# EAGLE library part BLDC_STACK_HEADER_PWR (library jack_libs)
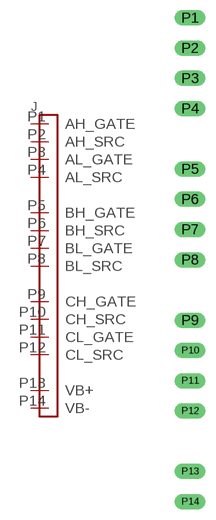
[diagram p9: symbol with the pads of BLDC_STACK_HEADER_PWR; footprint BLDC_STACK_HEADER_PWR]

Designator prefix J

## BLDC_STACK_HEADER_PWR  [BLDC_STACK_HEADER_PWR]
P1  AH_GATE
P2  AH_SRC
P3  AL_GATE
P4  AL_SRC
P5  BH_GATE
P6  BH_SRC
P7  BL_GATE
P8  BL_SRC
P9  CH_GATE
P10  CH_SRC
P11  CL_GATE
P12  CL_SRC
P13  VB+
P14  VB-

## Footprint BLDC_STACK_HEADER_PWR (pad centres in mm)
drill 0.8 long: P1 0,20.32; P2 0,17.78; P3 0,15.24; P4 0,12.7; P5 0,7.62; P6 0,5.08; P7 0,2.54; P8 0,0; P9 0,-5.08; P10 0,-7.62; P11 0,-10.16; P12 0,-12.7; P13 0,-17.78; P14 0,-20.32